# Altium footprint library TBMXNPX.PcbLib: 6 footprints
Each footprint in its own frame and in the unit in brackets; x right, y up, seen from the top. Pads: shape width x height; smd on the part's side, far side on the other; paste and mask are expansions set on the pad; w line width, h text height; cw(c..) or ccw(c..) is an arc to the next point about the centre after c.
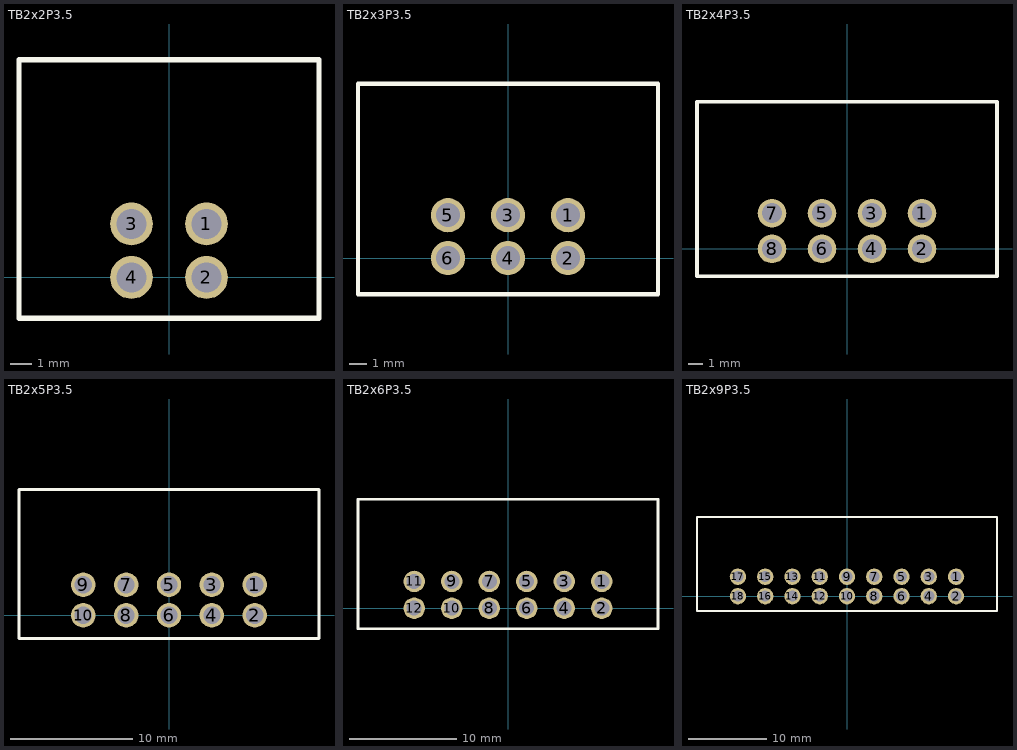
[diagram p0: the footprints below, top view; thin cyan lines are the x and y axes]

## TB2x2P3.5 [mm] "Terminal Block 2x3 with pitch 3.5mm"
pads (4):
  round 2 hole 1.4: 1(1.75,2.5) 2(1.75,0) 3(-1.75,2.5) 4(-1.75,0)
Top Overlay:
  lines w0.254: -7,-1.905 -7,10.16 7,10.16 7,-1.905 -7,-1.905
3D body: height 10.9, standoff -1.9, extent -7.079,-1.27 7.079,10.33

## TB2x3P3.5 [mm] "Terminal Block 2x3 with pitch 3.5mm"
pads (6):
  round 2 hole 1.4: 1(3.5,2.5) 2(3.5,0) 3(0,2.5) 4(0,0) 5(-3.5,2.5) 6(-3.5,0)
Top Overlay:
  lines w0.254: -8.75,-2.1 8.75,-2.1 8.75,10.16 -8.75,10.16 -8.75,-2.1
3D body: height 10.9, standoff -1.9, extent -8.829,-1.27 8.829,10.33

## TB2x4P3.5 [mm] "Terminal Block 2x4 with pitch 3.5mm"
pads (8):
  round 2 hole 1.4: 1(5.25,2.5) 2(5.25,0) 3(1.75,2.5) 4(1.75,0) 5(-1.75,2.5) 6(-1.75,0) 7(-5.25,2.5) 8(-5.25,0)
Top Overlay:
  lines w0.254: -10.5,-1.905 -10.5,10.287 10.5,10.287 10.5,-1.905 -10.5,-1.905
3D body: height 10.9, standoff -1.9, extent -10.618,-1.228 10.541,10.372

## TB2x5P3.5 [mm] "Terminal Block 2x5 with pitch 3.5mm"
pads (10):
  round 2 hole 1.4: 1(7,2.5) 2(7,0) 3(3.5,2.5) 4(3.5,0) 5(0,2.5) 6(0,0) 7(-3.5,2.5) 8(-3.5,0) 9(-7,2.5) 10(-7,0)
Top Overlay:
  lines w0.254: -12.25,-1.905 -12.25,10.287 12.25,10.287 12.25,-1.905 -12.25,-1.905
3D body: height 10.9, standoff -1.9, extent -12.455,-1.186 12.201,10.414

## TB2x6P3.5 [mm] "Terminal Block 2x6 with pitch 3.5mm"
pads (12):
  round 2 hole 1.4: 1(8.75,2.5) 2(8.75,0) 3(5.25,2.5) 4(5.25,0) 5(1.75,2.5) 6(1.75,0) 7(-1.75,2.5) 8(-1.75,0) 9(-5.25,2.5) 10(-5.25,0) 11(-8.75,2.5) 12(-8.75,0)
Top Overlay:
  lines w0.254: -14,-1.905 -14,10.16 14,10.16 14,-1.905 -14,-1.905
3D body: height 10.9, standoff -1.9, extent -14.078,-1.27 14.078,10.33

## TB2x9P3.5 [mm] "Terminal Block 2x9 with pitch 3.5mm"
pads (18):
  round 2.1 hole 1.4: 1(14,2.5) 2(14,0) 3(10.5,2.5) 4(10.5,0) 5(7,2.5) 6(7,0) 7(3.5,2.5) 8(3.5,0) 9(0,2.5) 10(0,0) 11(-3.5,2.5) 12(-3.5,0) 13(-7,2.5) 14(-7,0) 15(-10.5,2.5) 16(-10.5,0) 17(-14,2.5) 18(-14,0)
Top Overlay:
  lines w0.254: -19.25,-1.905 -19.25,10.16 19.25,10.16 19.25,-1.905 -19.25,-1.905
3D body: height 10.9, standoff -1.9, extent -19.329,-1.186 19.329,10.414